# EAGLE library part MM74HC4051M (library Fairchild_By_element14_Batch_1)
8-Channel Analog Multiplexer
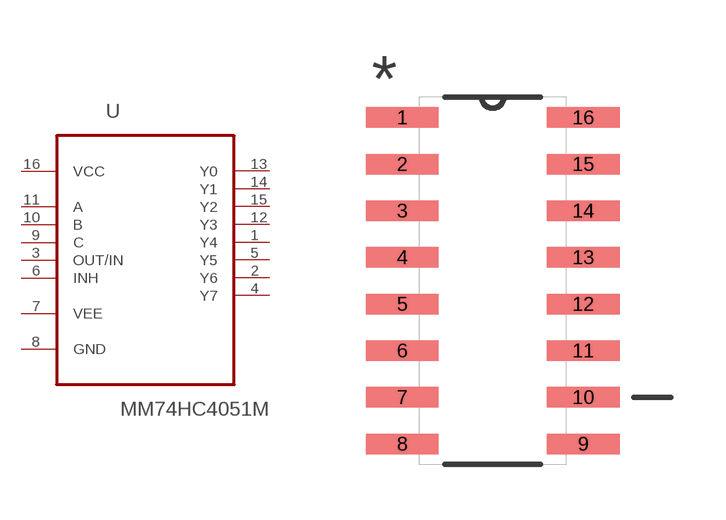
[diagram p285: symbol with the pads of SOIC127P600X175-16N; footprint SOIC127P600X175-16N]

Designator prefix U

## MM74HC4051M (MPN: MM74HC4051M; OC_FARNELL: 1013863; OC_NEWARK: 78K6075; PACKAGE: SOIC-16; SUPPLIER: Fairchild Semiconductor)  [SOIC127P600X175-16N]
1  Y4  out
2  Y6  out
3  OUT/IN
4  Y7  out
5  Y5  out
6  INH  in
7  VEE  pwr
8  GND  pas
9  C  in
10  B  in
11  A  in
12  Y3  out
13  Y0  out
14  Y1  out
15  Y2  out
16  VCC  pwr

## Footprint SOIC127P600X175-16N (pad centres in mm)
smd 1.981 x 0.559: 1 -2.464,4.445; 2 -2.464,3.175; 3 -2.464,1.905; 4 -2.464,0.635; 5 -2.464,-0.635; 6 -2.464,-1.905; 7 -2.464,-3.175; 8 -2.464,-4.445; 9 2.464,-4.445; 10 2.464,-3.175; 11 2.464,-1.905; 12 2.464,-0.635; 13 2.464,0.635; 14 2.464,1.905; 15 2.464,3.175; 16 2.464,4.445